# Altium footprint library SOD123.PcbLib: 1 footprints
Each footprint in its own frame and in the unit in brackets; x right, y up, seen from the top. Pads: shape width x height; smd on the part's side, far side on the other; paste and mask are expansions set on the pad; w line width, h text height; cw(c..) or ccw(c..) is an arc to the next point about the centre after c.
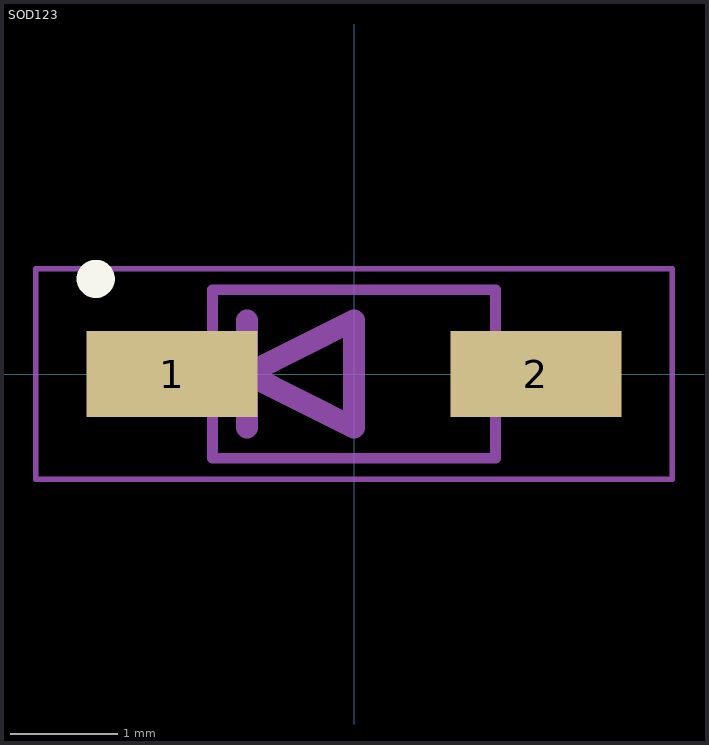
[diagram p0: the footprint, top view; thin cyan lines are the x and y axes]

## SOD123 [mm]
pads (2):
  rect 1.6x0.8 smd: 1(-1.7,0) 2(1.7,0)
Top Overlay:
  circle w0.254: c-2.413,0.889 r0.051
Mechanical 13:
  region: 1.956,-0.305 1.372,-0.305 1.372,0.305 1.956,0.305
  region: -1.372,-0.305 -1.956,-0.305 -1.956,0.305 -1.372,0.305
  lines w0.102: -1.321,-0.787 -1.321,0.787 1.321,0.787 1.321,-0.787 -1.321,-0.787
  lines w0.203: -1,-0.5 -1,0 ; -1,0.5 -1,0 ; -1,0 0,-0.5 0,0.5 -1,0
Mechanical 15:
  lines w0.051: -2.973,-0.983 -2.973,0.983 2.973,0.983 2.973,-0.983 -2.973,-0.983
3D body "step_temp.STEP": height 1.43, standoff -0.02, extent -1.85,-0.775 1.85,0.775